# Altium schematic symbol library RC0805JR-075K1L.SchLib: 1 symbol
Pins are listed as number, name and electrical type; pins without a type are passive.

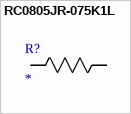
[diagram p0: symbol RC0805JR-075K1L]

## RC0805JR-075K1L
designator R?
No Description Available; Mfr_Name: Yageo; Digi-Key_Part_Number_4: 311-5.1KARTR-NDL; Digi-Key_Part_Number_3: 311-5.1KARTR-ND; Digi-Key_Part_Number_1: 311-5.1KARCT-ND; Digi-Key_Part_Number_2: 311-5.1KARDKR-ND; Supplier 1: Digikey; Supplier Part Number 1: 311-5.1KARCT-ND
footprint RC0805N_YAG-L
pins: 1, 2